# Altium footprint library Other Microcontrollers.PcbLib: 2 footprints
Each footprint in its own frame and in the unit in brackets; x right, y up, seen from the top. Pads: shape width x height; smd on the part's side, far side on the other; paste and mask are expansions set on the pad; w line width, h text height; cw(c..) or ccw(c..) is an arc to the next point about the centre after c.
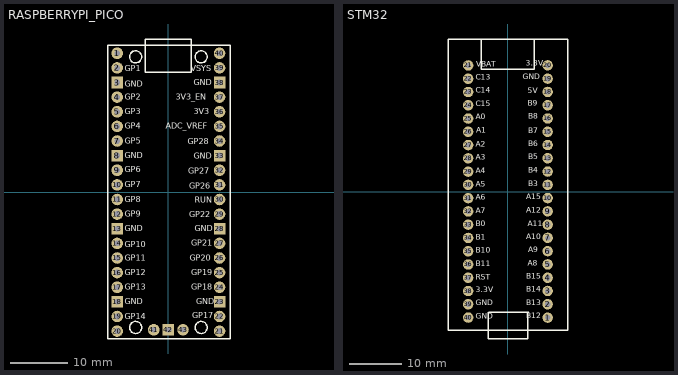
[diagram p0: the footprints below, top view; thin cyan lines are the x and y axes]

## RASPBERRYPI_PICO [mm]
pads (43):
  round 2 hole 1: 1(-8.89,24.13) 2(-8.89,21.59) 4(-8.89,16.51) 5(-8.89,13.97) 6(-8.89,11.43) 7(-8.89,8.89) 9(-8.89,3.81) 10(-8.89,1.27) 11(-8.89,-1.27) 12(-8.89,-3.81) 14(-8.89,-8.89) 15(-8.89,-11.43) 16(-8.89,-13.97) 17(-8.89,-16.51) 19(-8.89,-21.59) 20(-8.89,-24.13) 21(8.89,-24.13) 22(8.89,-21.59) 24(8.89,-16.51) 25(8.89,-13.97) 26(8.89,-11.43) 27(8.89,-8.89) 29(8.89,-3.81) 30(8.89,-1.27) 31(8.89,1.27) 32(8.89,3.81) 34(8.89,8.89) 35(8.89,11.43) 36(8.89,13.97) 37(8.89,16.51) 39(8.89,21.59) 40(8.89,24.13) 41(-2.54,-23.9) 43(2.54,-23.9)
  rect 2x2 hole 1: 3(-8.89,19.05) 8(-8.89,6.35) 13(-8.89,-6.35) 18(-8.89,-19.05) 23(8.89,-19.05) 28(8.89,-6.35) 33(8.89,6.35) 38(8.89,19.05) 42(0,-23.9)
Top Overlay:
  circle w0.254: c5.7,23.5 r1.05
  circle w0.254: c-5.7,23.5 r1.05
  circle w0.254: c-5.7,-23.5 r1.05
  circle w0.254: c5.7,-23.5 r1.05
  lines w0.254: -10.5,-25.5 -10.5,25.5 10.714,25.5 10.714,-25.5 -10.5,-25.5 ; -4,20.8 4,20.8 4,26.607 -4,26.607 -4,20.8
  text "3V3" at 4.364,13.525 h1
  text "GP26" at 3.602,0.572 h1
  text "GP27" at 3.475,3.238 h1
  text "GP28" at 3.348,8.319 h1
  text "ADC_VREF" at -0.462,10.986 h1
  text "GND" at 4.364,5.779 h1
  text "GP3" at -7.574,13.525 h1
  text "GP7" at -7.574,0.826 h1
  text "GP2" at -7.574,16.066 h1
  text "GP5" at -7.574,8.445 h1
  text "GND" at -7.574,5.905 h1
  text "GP6" at -7.574,3.492 h1
  text "GP4" at -7.574,10.986 h1
  text "GP1" at -7.574,21.018 h1
  text "GND" at 4.364,18.605 h1
  text "GND" at -7.574,18.351 h1
  text "VSYS" at 3.856,21.018 h1
  text "RUN" at 4.618,-1.841 h1
  text "GND" at 4.618,-6.794 h1
  text "GP19" at 3.983,-14.414 h1
  text "GP20" at 3.729,-11.874 h1
  text "GP10" at -7.574,-9.588 h1
  text "GP11" at -7.574,-11.874 h1
  text "GND" at -7.574,-6.794 h1
  text "GP22" at 3.602,-4.381 h1
  text "GP9" at -7.574,-4.255 h1
  text "GP12" at -7.574,-14.414 h1
  text "GP8" at -7.574,-1.714 h1
  text "GP21" at 3.983,-9.335 h1
  text "GP18" at 3.983,-16.954 h1
  text "GP13" at -7.574,-16.954 h1
  text "GND" at -7.574,-19.494 h1
  text "GND" at 4.872,-19.494 h1
  text "GP14" at -7.574,-22.034 h1
  text "GP17" at 4.11,-21.907 h1
  text "3V3_EN" at 1.316,16.066 h1
3D body "RASPBERRYPI_PICO.step": height 4.3, standoff 0, extent -10.368,-25.496 10.632,26.607

## STM32 [mm]
pads (40):
  round 2 hole 1: 1(7.607,-24.143) 2(7.607,-21.577) 3(7.607,-19.037) 4(7.607,-16.497) 5(7.607,-13.957) 6(7.607,-11.417) 7(7.607,-8.877) 8(7.607,-6.337) 9(7.607,-3.797) 10(7.607,-1.257) 11(7.607,1.283) 12(7.607,3.823) 13(7.607,6.363) 14(7.607,8.903) 15(7.607,11.443) 16(7.607,13.983) 17(7.607,16.523) 18(7.607,19.063) 19(7.607,21.603) 20(7.607,24.143) 21(-7.607,24.132) 22(-7.607,21.592) 23(-7.607,19.052) 24(-7.607,16.512) 25(-7.607,13.972) 26(-7.607,11.432) 27(-7.607,8.892) 28(-7.607,6.352) 29(-7.607,3.812) 30(-7.607,1.272) 31(-7.607,-1.268) 32(-7.607,-3.808) 33(-7.607,-6.348) 34(-7.607,-8.888) 35(-7.607,-11.428) 36(-7.607,-13.968) 37(-7.607,-16.508) 38(-7.607,-19.048) 39(-7.607,-21.588) 40(-7.607,-24.128)
Top Overlay:
  lines w0.254: -11.392,-26.53 11.473,-26.578 ; -11.379,-26.543 -11.443,29.197 11.417,29.197 11.468,-26.543 ; -3.797,-23.152 -3.797,-28.232 3.823,-28.232 3.823,-23.152 ; -3.777,-23.152 -3.777,-28.232 1.557,-28.232 ; -3.67,-23.152 3.95,-23.152 ; -3.65,-23.152 1.684,-23.152 ; 5.067,29.134 5.067,23.419 -5.093,23.419 ; -5.093,23.419 -5.093,29.134 -5.093,23.419
  text "5V" at 3.772,18.46 h1.78
  text "B9" at 3.772,16.047 h1.78
  text "B8" at 3.899,13.507 h1.78
  text "3.3V" at 3.391,23.667 h1.78
  text "GND" at 2.827,21.153 h1.78
  text "A5" at -6.134,0.553 h1.78
  text "A2" at -6.134,8.204 h1.78
  text "A3" at -6.134,5.659 h1.78
  text "A4" at -6.134,3.073 h1.78
  text "RST" at -6.134,-17.227 h1.78
  text "B10" at -6.134,-12.096 h1.78
  text "B11" at -6.134,-14.681 h1.78
  text "A6" at -6.134,-1.936 h1.78
  text "A7" at -6.134,-4.521 h1.78
  text "B0" at -6.134,-7.067 h1.78
  text "B1" at -6.134,-9.627 h1.78
  text "3.3V" at -6.134,-19.691 h1.78
  text "B15" at 3.528,-17.125 h1.78
  text "A8" at 3.835,-14.56 h1.78
  text "A11" at 3.752,-6.985 h1.78
  text "B3" at 3.899,0.655 h1.78
  text "A9" at 3.866,-11.994 h1.78
  text "A15" at 3.465,-1.834 h1.78
  text "A12" at 3.465,-4.42 h1.78
  text "A10" at 3.465,-9.505 h1.78
  text "VBAT" at -6.061,23.546 h1.78
  text "B5" at 3.899,5.76 h1.78
  text "B14" at 3.498,-19.609 h1.78
  text "B7" at 3.899,10.795 h1.78
  text "B4" at 3.866,3.175 h1.78
  text "B6" at 3.929,8.326 h1.78
  text "C15" at -6.134,15.971 h1.78
  text "C13" at -6.134,21.026 h1.78
  text "C14" at -6.134,18.536 h1.78
  text "A0" at -6.134,13.406 h1.78
  text "A1" at -6.063,10.846 h1.78
  text "GND" at -6.134,-22.18 h1.78
  text "B13" at 3.518,-22.18 h1.78
  text "GND" at -6.134,-24.745 h1.78
  text "B12" at 3.528,-24.689 h1.78
3D body "STM32.step": height 12.31, standoff -5.96, extent -11.397,-27.508 11.463,30.052